# Altium footprint library Footprints.PcbLib: 25 footprints (part 1 of 2)
Each footprint in its own frame and in the unit in brackets; x right, y up, seen from the top. Pads: shape width x height; smd on the part's side, far side on the other; paste and mask are expansions set on the pad; w line width, h text height; cw(c..) or ccw(c..) is an arc to the next point about the centre after c.
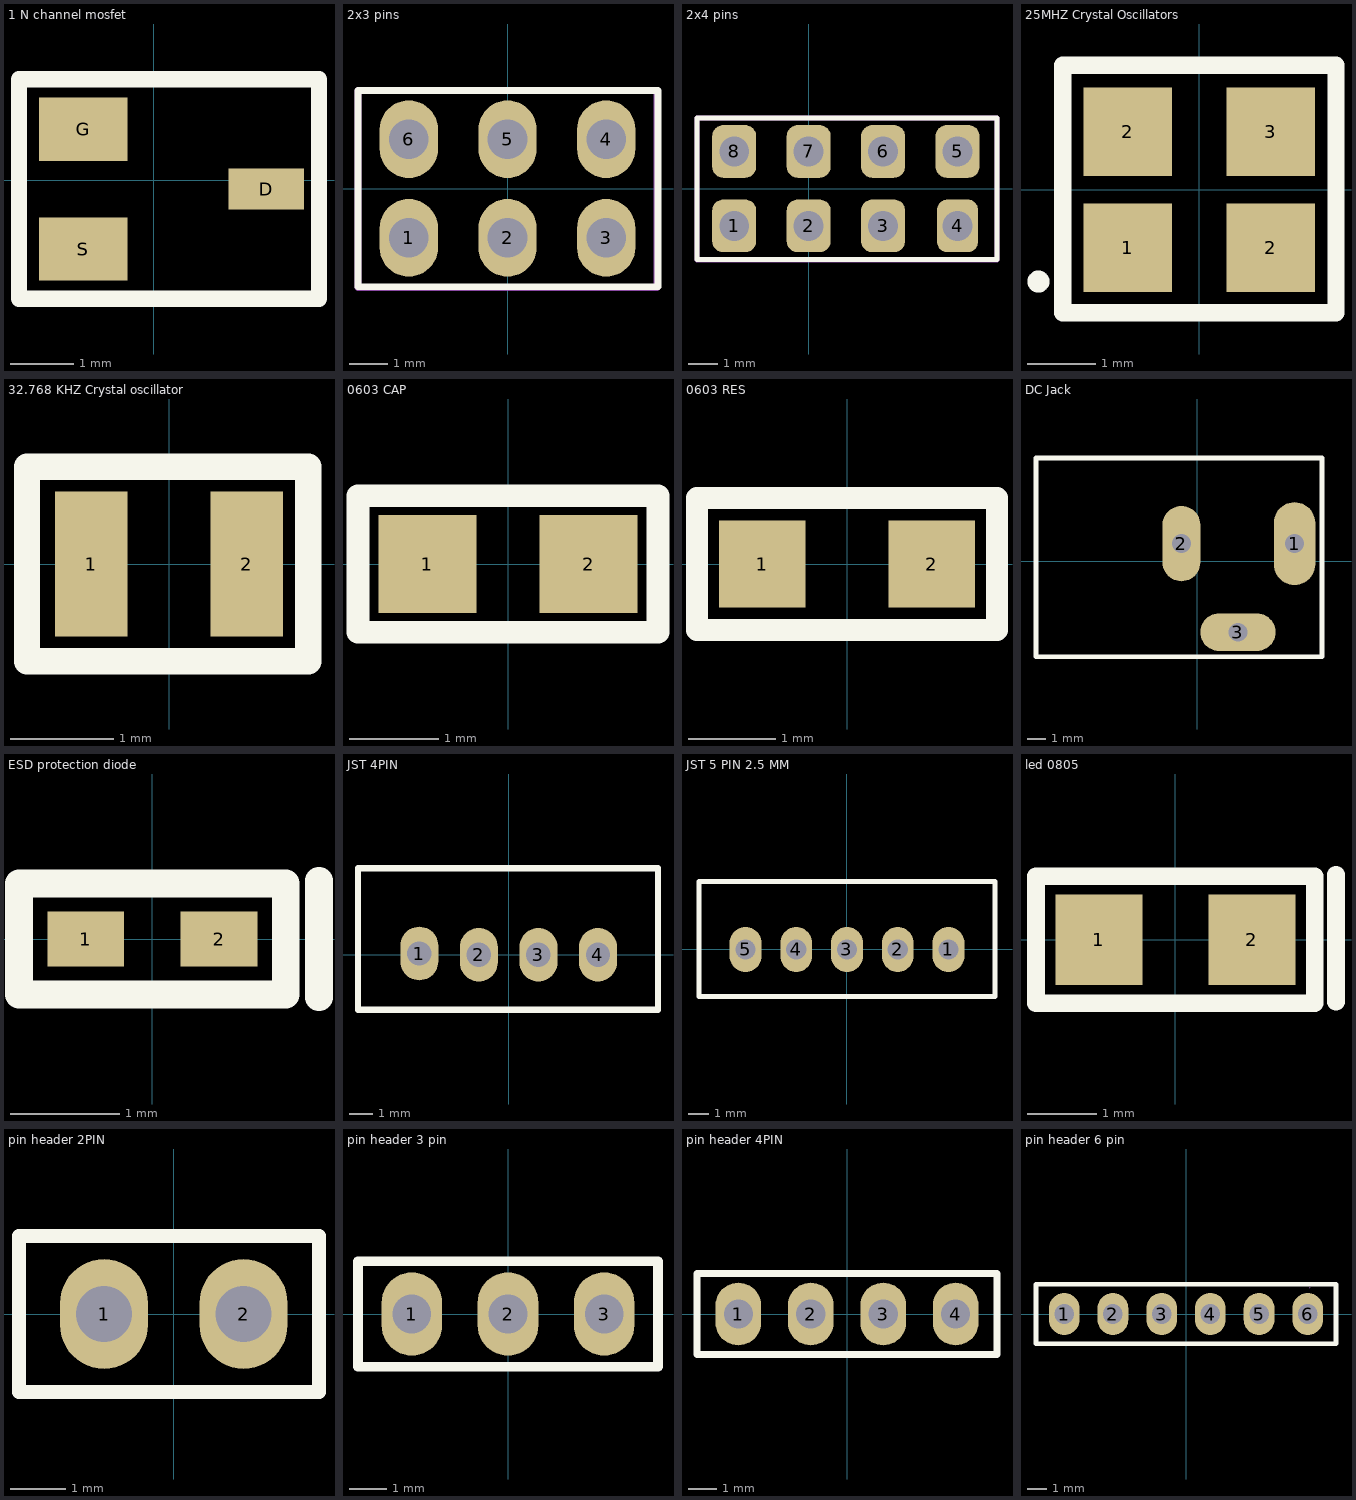
[diagram p0: the footprints below, top view; thin cyan lines are the x and y axes]

## 1 N channel mosfet [mm]
pads (3):
  rect 1.2x0.65 smd: D(1.786,-0.142)
  rect 1.4x1 smd: G(-1.114,0.808) S(-1.114,-1.092)
Top Overlay:
  lines w0.254: -2.134,-1.88 -2.134,1.6 2.622,1.6 2.622,0.583 2.622,-1.88 -2.134,-1.88
Mechanical 29:
  text ".Designator" at -1.703,-0.3 h0.4
3D body "SOT23-3.stp": height 1.2, standoff 0.02, extent -1.133,-1.642 1.703,1.358

## 2x3 pins [mm]
pads (6):
  oval 1.5x2 hole 1.02: 1(-2.54,-1.27) 2(0,-1.27) 3(2.54,-1.27) 4(2.54,1.27) 5(0,1.27) 6(-2.54,1.27)
Top Overlay:
  lines w0.17: -3.85,-2.525 3.875,-2.525 3.875,2.525 -3.85,2.525 -3.85,-2.525
Mechanical 29:
  lines w0.17: -3.85,-2.55 3.85,-2.55 3.85,2.525 -3.85,2.525 -3.85,-2.55
  text ".Designator" at -3.962,-0.149 h1
3D body "User Library-HEADER, 2X3, 2_54MM X 2_54MM PITCH, VERT, TH.step": height 8.38, standoff -3.81, extent -3.835,-2.555 3.785,2.525

## 2x4 pins [mm]
pads (8):
  rrect50% 1.5x1.8 hole 1.02: 1(-2.54,-1.27) 2(0,-1.27) 3(2.54,-1.27) 5(5.08,1.27) 6(2.54,1.27) 7(0,1.27) 8(-2.54,1.27)
  rrect50% 1.4x1.8 hole 1.02: 4(5.08,-1.27)
Top Overlay:
  lines w0.17: -3.81,-2.413 -3.81,2.413 6.426,2.413 6.426,-2.413 -3.81,-2.413
Mechanical 29:
  lines w0.17: -3.81,-2.438 -3.81,2.413 6.426,2.413 6.426,-2.438 -3.81,-2.438
  text ".Designator" at -4.318,-0.251 h1
3D body "User Library-2_54mm Male Header (4x2).STEP": height 8.54, standoff -3, extent -3.785,-2.505 6.375,2.475

## 25MHZ Crystal Oscillators [mm]
pads (4):
  rect 1.3x1.3 smd: 1(-1.05,-0.85) 2(-1.05,0.85) 2(1.05,-0.85) 3(1.05,0.85)
Top Overlay:
  circle w0.25: c-2.362,-1.346 r0.036
  lines w0.254: -2.007,-1.803 2.007,-1.803 2.007,1.829 -2.007,1.829 -2.007,-1.803
Mechanical 29:
  text ".Designator" at -1.5,-0.13 h0.3
3D body "ECS-250-8-33B-CTN-TR.STEP": height 0.8, standoff 0, extent -1.6,-1.25 1.6,1.25

## 32.768 KHZ Crystal oscillator [mm]
pads (2):
  rect 0.7x1.4 smd: 1(-0.75,0) 2(0.75,0)
Top Overlay:
  lines w0.254: -1.372,-0.94 -1.372,0.94 1.346,0.94 1.346,-0.94 -1.372,-0.94
Mechanical 29:
  text ".Designator" at -1.399,-0.13 h0.3
3D body "ECS-.327-7-12R-TR.STEP": height 0.6, standoff 0, extent -1,-0.6 1,0.6

## 0603 CAP [mm] "Chip Capacitor, 2-Leads, Body 1.60x0.80mm, IPC Medium Density"
height 0.9
pads (2):
  rect 1.1x1.1 smd: 1(-0.9,0) 2(0.9,0)
Top Overlay:
  lines w0.254: -1.676,-0.762 -1.676,0.762 1.676,0.762 1.676,-0.762 -1.676,-0.762
Mechanical 29:
  text ".Designator" at -0.991,-0.061 h0.2
3D body "cap 0603.STEP": height 0.94, standoff 0, extent -0.8,-0.4 0.8,0.4

## 0603 RES [mm] "100mW Thick Film Resistors 75V ±100ppm/? ±5% 1kO 0603 Chip Resistor - Surface Mount ROHS"
pads (2):
  rect 1x1 smd: 1(-0.975,0) 2(0.975,0)
Top Overlay:
  lines w0.254: -1.727,-0.762 -1.727,0.762 1.727,0.762 1.727,-0.762 -1.727,-0.762
Mechanical 29:
  text ".Designator" at -1.246,-0.147 h0.25
3D body "res 0603.STEP": height 0.45, standoff 0, extent -0.8,-0.4 0.8,0.4

## DC Jack [mm]
pads (3):
  oval 2.2x4.4 hole 1 square: 1(5.154,0.928)
  oval 2x4 hole 1 square: 2(-0.846,0.928)
  oval 4x2 hole 1 square: 3(2.154,-3.772)
Top Overlay:
  lines w0.254: -8.56,-5.08 6.604,-5.08 6.604,5.461 -8.56,5.461 -8.56,-5.08
Mechanical 29:
  text ".Designator" at -7.976,-1.134 h1.4
3D body "DC-005-5A-2.0--3DModel-STEP-269445.STEP": height 11, standoff -3.5, extent -8.419,-3.91 6.181,5.44

## ESD protection diode [mm]
pads (2):
  rect 0.7x0.5 smd: 1(-0.61,0) 2(0.61,0)
Top Overlay:
  lines w0.254: 1.524,-0.533 1.524,0.533 ; -1.219,-0.508 1.219,-0.508 1.219,0.508 -1.219,0.508 -1.219,-0.508
Mechanical 29:
  text ".Designator" at -1.017,-0.163 h0.2
3D body "DYA0002A.stp": height 0.77, standoff 0, extent -0.8,-0.4 0.8,0.4

## JST 4PIN [mm]
pads (4):
  oval 1.6x2.25 hole 1.02: 1(-3.75,0.051) 2(-1.25,0) 3(1.25,0) 4(3.75,0)
Top Overlay:
  lines w0.254: -6.325,-2.311 6.274,-2.311 6.274,3.632 -6.325,3.632 -6.325,-2.311
Mechanical 29:
  text ".Designator" at -2.413,-0.138 h0.5
3D body "XH-4.step": height 9.6, standoff -4.5, extent -6.2,-2.214 6.2,3.586

## JST 5 PIN 2.5 MM [mm]
pads (5):
  oval 1.6x2.25 hole 1.02: 1(5.08,0) 2(2.54,0) 3(0,0) 4(-2.54,0) 5(-5.08,0)
Top Overlay:
  lines w0.254: -7.41,-2.35 7.41,-2.35 7.41,3.4 -7.41,3.4 -7.41,-2.35
Mechanical 6:
  region: 5.334,-2.286 7.366,-2.286 7.366,3.302 -7.366,3.302 -7.366,-2.286 -5.334,-2.286 -5.334,-2.424 -5.36,-2.45 -7.46,-2.45 -7.51,-2.4 -7.51,3.4 -7.41,3.5 7.39,3.5 7.49,3.4 7.49,-2.35 7.44,-2.4 5.34,-2.4
Mechanical 15:
  region: 7.51,3.4 7.51,3.425 7.475,3.46 7.425,3.46 7.39,3.425 7.39,3.4 7.39,3.375 7.425,3.34 7.475,3.34 7.51,3.375
  lines w0.051: -7.45,-2.35 -7.45,3.4 7.45,3.4 7.45,-2.35 -7.45,-2.35
Mechanical 29:
  text ".Designator" at -5.376,-0.034 h1
3D body "B5B-XH-A-LF--SN---3DModel-STEP-418109.STEP": height 7, standoff -3.4, extent -7.442,-2.328 7.458,3.422

## led 0805 [mm]
pads (2):
  rect 1.25x1.3 smd: 1(-1.1,0) 2(1.1,0)
Top Overlay:
  lines w0.254: 2.311,-0.889 2.311,0.94 ; -2.007,-0.914 2.007,-0.914 2.007,0.914 -2.007,0.914 -2.007,-0.914
Mechanical 29:
  text ".Designator" at -2.034,-0.072 h0.4
3D body "APHCM2012.STEP": height 0.41, standoff 0, extent -1.025,-0.6 0.975,0.65

## pin header 2PIN [mm] "Straight Policy 2.5mm 2P 6mm -40?~+105? 3mm 2.54mm Single Row Black Brass 1x2P Plugin,P=2.54mm Pin Headers ROHS"
pads (2):
  oval 1.6x2 hole 1.02: 1(-1.27,0) 2(1.27,0)
Top Overlay:
  lines w0.254: -2.819,-1.422 2.642,-1.422 2.642,1.422 -2.819,1.422 -2.819,-1.422
Mechanical 29:
  text ".Designator" at -2.337,-0.113 h0.5
3D body "Header, Male, 2.54mm, 1x2.STEP": height 8.54, standoff -3, extent -2.616,-1.27 2.464,1.27

## pin header 3 pin [mm]
pads (3):
  oval 1.6x2.2 hole 1.02: 1(-2.54,0) 2(0,0) 3(2.54,0)
Top Overlay:
  lines w0.254: -3.962,-1.397 3.962,-1.397 3.962,1.397 -3.962,1.397 -3.962,-1.397
Mechanical 29:
  text ".Designator" at -2.01,-0.21 h0.6
3D body "68001-203HLF.STEP": height 8.38, standoff -3.05, extent -3.81,-1.205 3.81,1.205

## pin header 4PIN [mm]
pads (4):
  oval 1.6x2.2 hole 1.02: 1(-3.81,0) 2(-1.27,0) 3(1.27,0) 4(3.81,0)
Top Overlay:
  lines w0.254: -5.258,-1.422 5.258,-1.422 5.258,1.422 -5.258,1.422 -5.258,-1.422
Mechanical 29:
  text ".Designator" at -3.28,-0.21 h0.6
3D body "Pin Header 1x4 TH Pitch 2.54mm.stp": height 9.5, standoff -3.2, extent -5.08,-1.27 5.08,1.27

## pin header 6 pin [mm] "3A Policy 2.5mm 6mm 4P -40℃~+105℃ 2.54mm Single Row 1x4P Plugin,P=2.54mm Pin Headers ROHS"
pads (6):
  oval 1.6x2.2 hole 1.02: 1(-6.35,0) 2(-3.81,0) 3(-1.27,0) 4(1.27,0) 5(3.81,0) 6(6.35,0)
Top Overlay:
  lines w0.254: -7.823,-1.549 -7.823,1.549 7.823,1.549 7.823,-1.549 -7.823,-1.549
Mechanical 29:
  lines w0.05: 6.452,1.372 6.477,1.397
  text ".Designator" at -5.185,-0.178 h1
3D body "PBS-6.step": height 8.5, standoff -3, extent -7.62,-1.27 7.62,1.27